# EAGLE library part LM3488 (library BW-Active)
Boost/SEPIC/Flyback switching controller
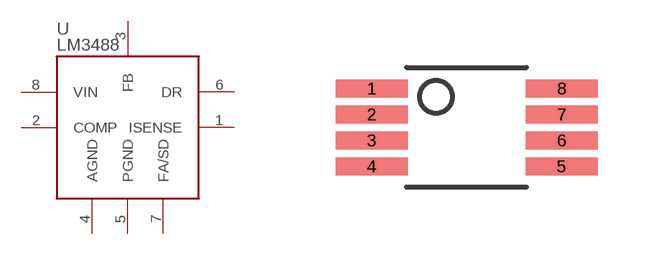
[diagram p23: symbol with the pads of VSSOP8; footprint VSSOP8]

Designator prefix U

## LM3488  [VSSOP8]
1  ISENSE
2  COMP
3  FB
4  AGND
5  PGND
6  DR
7  FA/SD
8  VIN

## Footprint VSSOP8 (pad centres in mm)
smd 1.8 x 0.45: 1 -2.375,0.975; 2 -2.375,0.325; 3 -2.375,-0.325; 4 -2.375,-0.975; 5 2.375,-0.975; 6 2.375,-0.325; 7 2.375,0.325; 8 2.375,0.975